# Altium schematic symbol library 电感线圈变压器.SchLib: 1 symbol
Pins are listed as number, name and electrical type; pins without a type are passive.

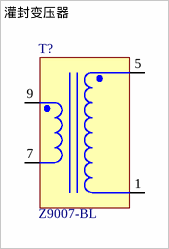
[diagram p0: symbol 灌封变压器]

## 灌封变压器
designator T?, comment Z9007-BL
Manufacturer: Coilcraft; Output: 16 V, 4.2 A; Inductance +/-10% (mH): 0.7; Leakage inductance max (uH): 26; Isolation (Vrms): 1500; DCR max (Ohms): 0.261 (12-7) 0.013 (6-1) 0.013 (4-3); PackageDescription: 12-Pin Through Hole Package, Body 36.8 x 36.8 mm; ComponentLink1URL: http://www.coilcraft.com/; ComponentLink3URL: http://www.coilcraft.com/pdf_viewer/showpdf.cfm?f=pdf_store:y8844.pdf; ComponentLink2URL: http://www.coilcraft.com/pdf_viewer/showpdf.cfm?f=pdf_store:y8844.pdf; ComponentLink2Description: Datasheet; ComponentLink3Description: Package Specification; DatasheetVersion: 31/01/2005; Mounting Technology: Through Hole; PackageReference: Z9007-BL-12; PartNumber: Z9007-BL; Application: 70 W; Operating Temperature Range: -40 to 85 degC; ComponentLink1Description: Manufacturer URL
footprint 淘宝通用款变压器
pins: 1, 5, 7, 9